# Altium schematic symbol library 智能锁实践教学平台.SchLib: 44 symbols
Pins are listed as number, name and electrical type; pins without a type are passive.

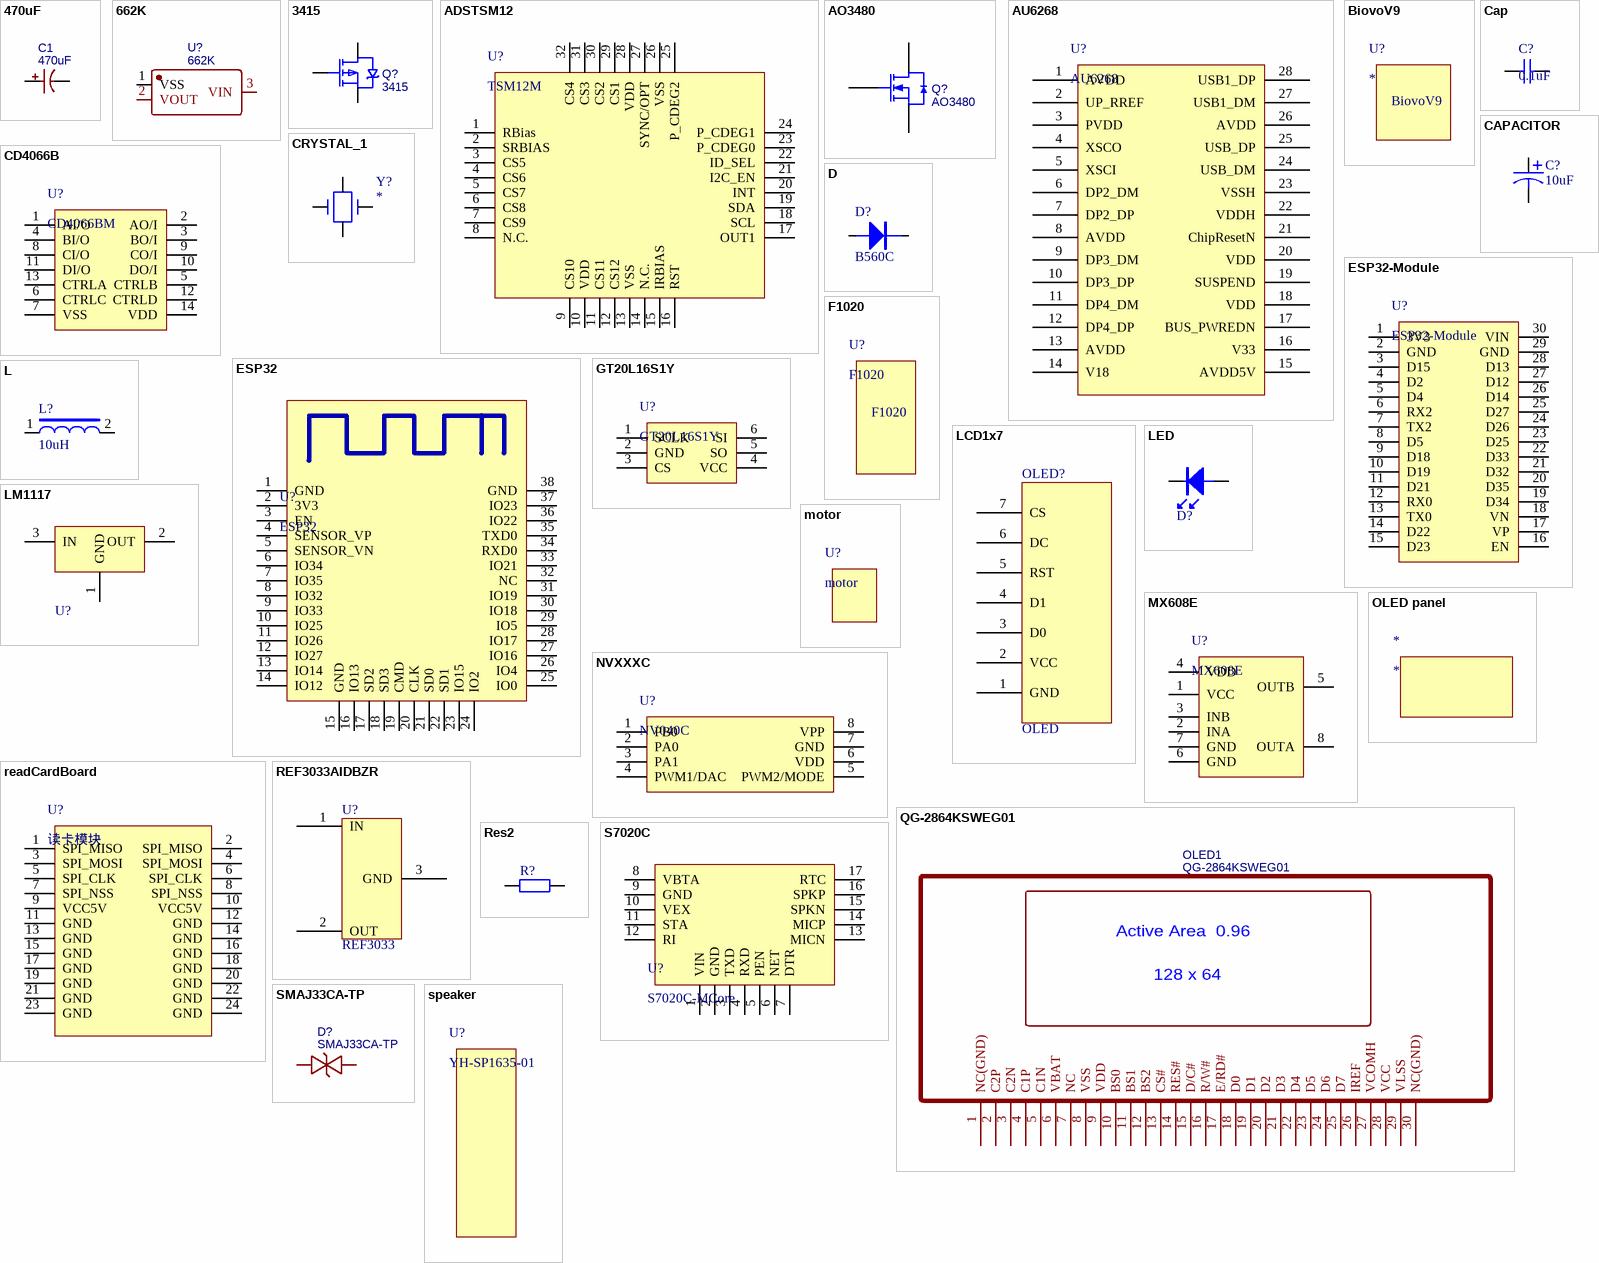
[diagram p0: symbols 470uF to speaker]

## 470uF
designator C1
BOM_Manufacturer: Lelon; BOM_Manufacturer Part: VZH471M1A1008-TRO; nameAlias: Capacitance; Contributor: LCSC; BOM_Supplier: LCSC; BOM_Supplier Part: C249929; BOM_JLCPCB Part Class: Extended Part; spicePre: C; spiceSymbolName: VZH471M1A1008-TRO
footprint CAP-SMD_BD10.0-L10.3-W10.3-FD
pins: 1, 2

## 662K
designator U?
footprint SOT-23(SOT-23-3)
pins: 1 VSS, 2 VOUT, 3 VIN

## 3415
designator Q?
BOM_Manufacturer: FM; SMT Type: Extend; BOM_Supplier: LCSC; BOM_Manufacturer Part: 3415; BOM_Supplier Part: C98122; BOM_LCSC Assembly: Yes; spicePre: Q; spiceSymbolName: 3415
footprint SOT-23(SOT-23-3)
pins: 1 G, 2 S, 3 D

## ADSTSM12
designator U?, comment TSM12M
触摸芯片，TSM12M，MLF-32封装
footprint MLF-32
pins: 1 RBias, 2 SRBIAS, 3 CS5, 4 CS6, 5 CS7, 6 CS8, 7 CS9, 8 N.C., 9 CS10, 10 VDD, 11 CS11, 12 CS12, 13 VSS, 14 N.C., 15 IRBIAS, 16 RST, 17 OUT1, 18 SCL, 19 SDA, 20 INT, 21 I2C_EN, 22 ID_SEL, 23 P_CDEG0, 24 P_CDEG1, 25 P_CDEG2, 26 VSS, 27 SYNC/OPT, 28 VDD, 29 CS1, 30 CS2, 31 CS3, 32 CS4

## AO3480
designator Q?
BOM_Manufacturer: Alpha & Omega Semicon; Contributor: LCSC; BOM_Supplier: LCSC; BOM_Supplier Part: C350817; BOM_Manufacturer Part: AO3480; spicePre: Q; spiceSymbolName: AO3480
footprint SOT-23(SOT-23-3)
pins: 1 G, 2 S, 3 D

## AU6268
designator U?
AU6268,SSOP28封装
footprint SSOP-28_208mil
pins: 1 AVDD, 2 UP_RREF, 3 PVDD, 4 XSCO, 5 XSCI, 6 DP2_DM, 7 DP2_DP, 8 AVDD, 9 DP3_DM, 10 DP3_DP, 11 DP4_DM, 12 DP4_DP, 13 AVDD, 14 V18, 15 AVDD5V, 16 V33, 17 BUS_PWREDN, 18 VDD, 19 SUSPEND, 20 VDD, 21 ChipResetN, 22 VDDH, 23 VSSH, 24 USB_DM, 25 USB_DP, 26 AVDD, 27 USB1_DM, 28 USB1_DP

## BiovoV9
designator U?
footprint BiovoV9

## Cap
designator C?, comment 0.1uF
贴片电容，0603
footprint 0603_C
pins: 1, 2

## CAPACITOR
designator C?, comment 10uF
贴片电容，SMD,6.3*5.7mm
footprint RB.2/.4
footprint CAP-T-6.3*5.7
footprint CASE-B_3528
pins: 1, 2
2 alternate drawings of the same symbol

## CD4066B
designator U?, comment CD4066BM
footprint SOIC-14_L8.7-W3.9-P1.27-LS6.0-BL
pins: 1 AI/O, 2 AO/I, 3 BO/I, 4 BI/O, 5 CTRLB, 6 CTRLC, 7 VSS, 8 CI/O, 9 CO/I, 10 DO/I, 11 DI/O, 12 CTRLD, 13 CTRLA, 14 VDD

## CRYSTAL_1
designator Y?
OSC,32.768KHz,+/-25ppm,3.3V,15pF,MC146,-20℃~70℃
footprint CRY_MC146
pins: 1, 2, 3, 4
2 alternate drawings of the same symbol

## D
designator D?, comment B560C
肖特基二极管，B560C，SMC(DO-214AB)_S1
footprint SMC(DO-214AB)_S1
footprint 1N4148
footprint 1N4742
footprint 1N5402
footprint SMA(DO-214AC)_S5
pins: 1, 2
2 alternate drawings of the same symbol

## ESP32
designator U?
footprint ESP32
pins: 1 GND, 2 3V3, 3 EN, 4 SENSOR_VP, 5 SENSOR_VN, 6 IO34, 7 IO35, 8 IO32, 9 IO33, 10 IO25, 11 IO26, 12 IO27, 13 IO14, 14 IO12, 15 GND, 16 IO13, 17 SD2, 18 SD3, 19 CMD, 20 CLK, 21 SD0, 22 SD1, 23 IO15, 24 IO2, 25 IO0, 26 IO4, 27 IO16, 28 IO17, 29 IO5, 30 IO18, 31 IO19, 32 NC, 33 IO21, 34 RXD0, 35 TXD0, 36 IO22, 37 IO23, 38 GND

## ESP32-Module
designator U?
ESP32开发板
footprint ESP32-MODULE
pins: 1 3V3, 2 GND, 3 D15, 4 D2, 5 D4, 6 RX2, 7 TX2, 8 D5, 9 D18, 10 D19, 11 D21, 12 RX0, 13 TX0, 14 D22, 15 D23, 16 EN, 17 VP, 18 VN, 19 D34, 20 D35, 21 D32, 22 D33, 23 D25, 24 D26, 25 D27, 26 D14, 27 D12, 28 D13, 29 GND, 30 VIN

## F1020
designator U?
footprint F1020

## GT20L16S1Y
designator U?
字库芯片， SOT-23-6
footprint SOT-23-6
pins: 1 SCLK, 2 GND, 3 CS, 4 VCC, 5 SO, 6 SI

## L
designator L?, comment 10uH
footprint XH2p
footprint L10
footprint L20
footprint L4.5
footprint 0603_L
pins: 1, 2
2 alternate drawings of the same symbol

## LCD1x7
designator OLED?, comment OLED
中景园0.96寸OLED
footprint OLED1X7 (Connector; Header; 7 Position)
footprint OLED1X7 (Connector; Header; 7 Position)
pins: 1 GND, 2 VCC, 3 D0, 4 D1, 5 RST, 6 DC, 7 CS

## LED
designator D?  (value not drawn)
贴片LED，0603，绿色
footprint LED_0603
footprint 0603_LED_S1
pins: A, K

## LM1117
designator U?  (value not drawn)
footprint SOT-223
pins: 1 GND, 2 OUT, 3 IN

## motor
designator U?
顶呱呱工厂 MH-JS030LK140
footprint MH-JS030LK140

## MX608E
designator U?
MX608E电机驱动，SOP8
footprint SOP-8_150mil
pins: 1 VCC, 2 INA, 3 INB, 4 VDD, 5 OUTB, 6 GND, 7 GND, 8 OUTA

## NVXXXC
designator U?, comment NV040C
语音芯片，SOP-8
footprint SOP-8_150mil
pins: 1 PB0, 2 PA0, 3 PA1, 4 PWM1/DAC, 5 PWM2/MODE, 6 VDD, 7 GND, 8 VPP

## OLED panel
designator *

## QG-2864KSWEG01
designator OLED1
BOM_Manufacturer: Allvision; BOM_Supplier: LCSC; BOM_Manufacturer Part: QG-2864KSWEG01; BOM_Supplier Part: C85007; spicePre: O; spiceSymbolName: QG-2864KSWEG01
footprint OLED-SMD_QG-2864KSWEG01
pins: 1 NC(GND), 2 C2P, 3 C2N, 4 C1P, 5 C1N, 6 VBAT, 7 NC, 8 VSS, 9 VDD, 10 BS0, 11 BS1, 12 BS2, 13 CS#, 14 RES#, 15 D/C#, 16 R/W#, 17 E/RD#, 18 D0, 19 D1, 20 D2, 21 D3, 22 D4, 23 D5, 24 D6, 25 D7, 26 IREF, 27 VCOMH, 28 VCC, 29 VLSS, 30 NC(GND)
text: Active Area  0.96; 128 x 64

## readCardBoard
designator U?, comment 读卡模块
footprint readCardBoard
pins: 1 SPI_MISO, 2 SPI_MISO, 3 SPI_MOSI, 4 SPI_MOSI, 5 SPI_CLK, 6 SPI_CLK, 7 SPI_NSS, 8 SPI_NSS, 9 VCC5V, 10 VCC5V, 11 GND, 12 GND, 13 GND, 14 GND, 15 GND, 16 GND, 17 GND, 18 GND, 19 GND, 20 GND, 21 GND, 22 GND, 23 GND, 24 GND

## REF3033AIDBZR
designator U?, comment REF3033
3.0V标准电压输出，SOT-23; autor: caibin
footprint SOT-23(SOT-23-3)
pins: 1 IN, 2 OUT, 3 GND

## Res2
designator R?  (value not drawn)
贴片电阻，0603
footprint 0603_R
pins: 1, 2

## S7020C
designator U?, comment S7020C-MCore
footprint S7020C-MCore
pins: 1 VIN, 2 GND, 3 TXD, 4 RXD, 5 PEN, 6 NET, 7 DTR, 8 VBTA, 9 GND, 10 VEX, 11 STA, 12 RI, 13 MICN, 14 MICP, 15 SPKN, 16 SPKP, 17 RTC

## SMAJ33CA-TP
designator D?
footprint SMA_L4.4-W2.6-LS5.0-BI
pins: 1, 2

## speaker
designator U?, comment YH-SP1635-01
1635腔体喇叭
footprint YH-SP1635-01

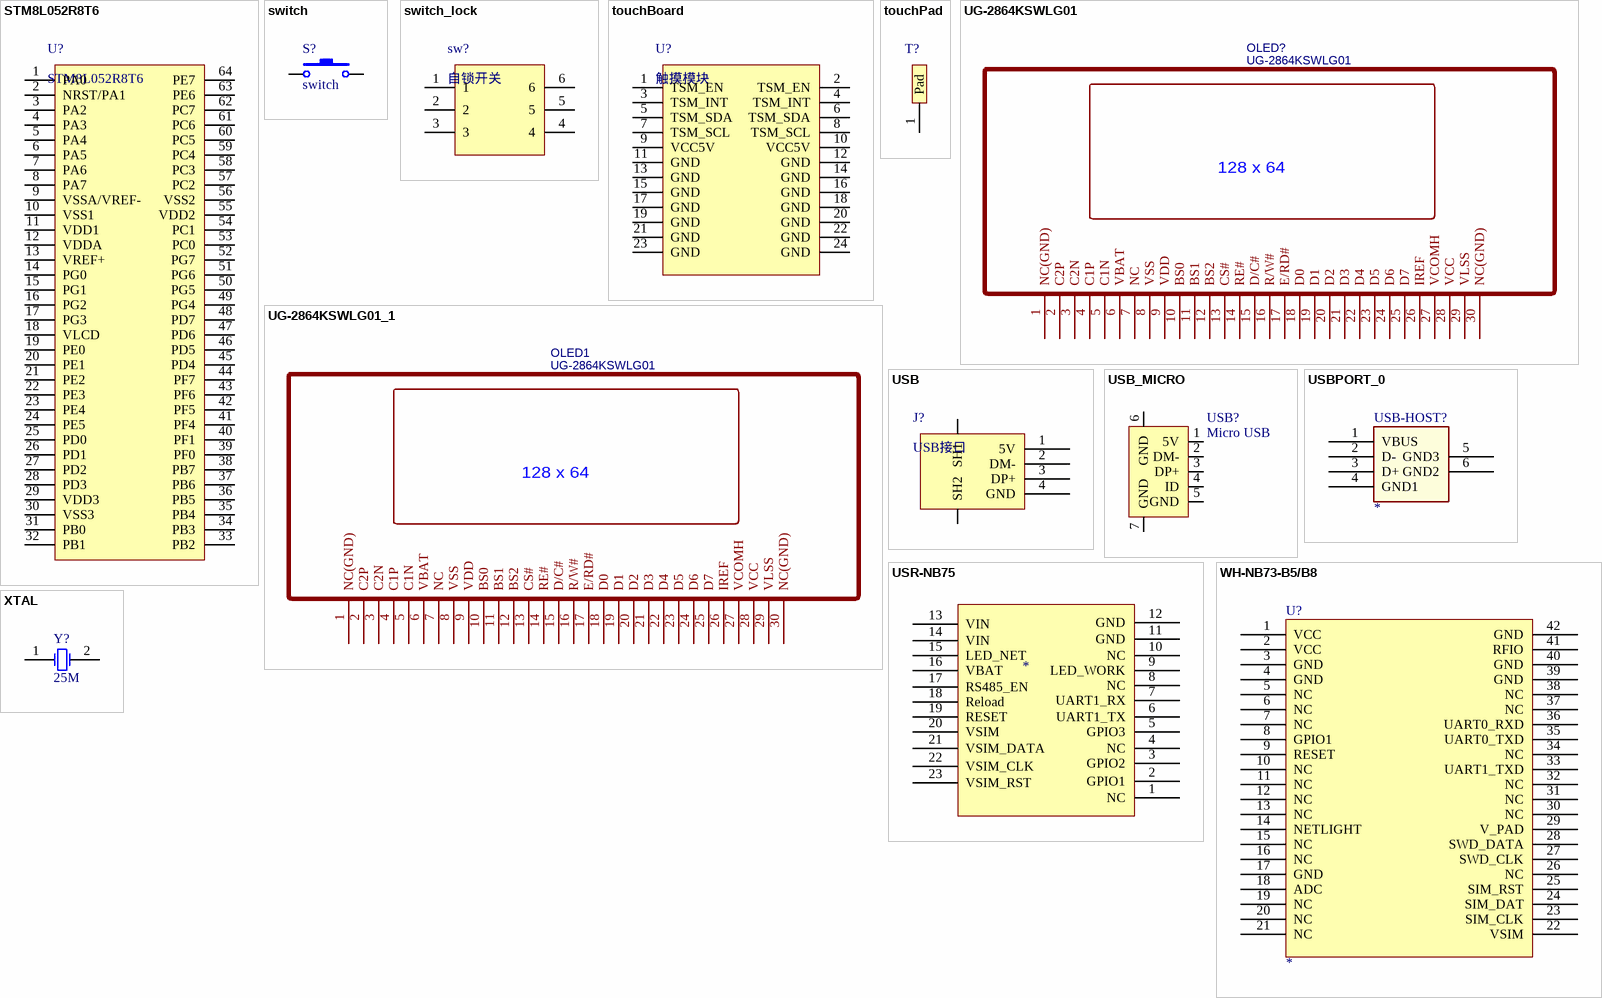
[diagram p1: symbols STM8L052R8T6 to XTAL]

## STM8L052R8T6
designator U?
pins: 1 PA0, 2 NRST/PA1, 3 PA2, 4 PA3, 5 PA4, 6 PA5, 7 PA6, 8 PA7, 9 VSSA/VREF-, 10 VSS1, 11 VDD1, 12 VDDA, 13 VREF+, 14 PG0, 15 PG1, 16 PG2, 17 PG3, 18 VLCD, 19 PE0, 20 PE1, 21 PE2, 22 PE3, 23 PE4, 24 PE5, 25 PD0, 26 PD1, 27 PD2, 28 PD3, 29 VDD3, 30 VSS3, 31 PB0, 32 PB1, 33 PB2, 34 PB3, 35 PB4, 36 PB5, 37 PB6, 38 PB7, 39 PF0, 40 PF1, 41 PF4, 42 PF5, 43 PF6, 44 PF7, 45 PD4, 46 PD5, 47 PD6, 48 PD7, 49 PG4, 50 PG5, 51 PG6, 52 PG7, 53 PC0, 54 PC1, 55 VDD2, 56 VSS2, 57 PC2, 58 PC3, 59 PC4, 60 PC5, 61 PC6, 62 PC7, 63 PE6, 64 PE7

## switch
designator S?
贴片按键，6*6*5
footprint KEY6*6
pins: 1, 2

## switch_lock
designator sw?, comment 自锁开关
footprint switch
pins: 1, 2, 3, 4, 5, 6

## touchBoard
designator U?, comment 触摸模块
footprint touchBoard
pins: 1 TSM_EN, 2 TSM_EN, 3 TSM_INT, 4 TSM_INT, 5 TSM_SDA, 6 TSM_SDA, 7 TSM_SCL, 8 TSM_SCL, 9 VCC5V, 10 VCC5V, 11 GND, 12 GND, 13 GND, 14 GND, 15 GND, 16 GND, 17 GND, 18 GND, 19 GND, 20 GND, 21 GND, 22 GND, 23 GND, 24 GND

## touchPad
designator T?  (value not drawn)
footprint touchPad
pins: 1 Pad

## UG-2864KSWLG01
designator OLED?
1.3寸oled
footprint OLED-1.3
pins: 1 NC(GND), 2 C2P, 3 C2N, 4 C1P, 5 C1N, 6 VBAT, 7 NC, 8 VSS, 9 VDD, 10 BS0, 11 BS1, 12 BS2, 13 CS#, 14 RE#, 15 D/C#, 16 R/W#, 17 E/RD#, 18 D0, 19 D1, 20 D2, 21 D3, 22 D4, 23 D5, 24 D6, 25 D7, 26 IREF, 27 VCOMH, 28 VCC, 29 VLSS, 30 NC(GND)
text: 128 x 64

## UG-2864KSWLG01_1
designator OLED1, comment UG-2864KSWLG01
BOM_Manufacturer: UG; BOM_Supplier: LCSC; BOM_Manufacturer Part: UG-2864KSWLG01; BOM_Supplier Part: C113322; BOM_JLCPCB Part Class: Extended Part; spicePre: O; spiceSymbolName: UG-2864KSWLG01
footprint OLED-1.3
pins: 1 NC(GND), 2 C2P, 3 C2N, 4 C1P, 5 C1N, 6 VBAT, 7 NC, 8 VSS, 9 VDD, 10 BS0, 11 BS1, 12 BS2, 13 CS#, 14 RE#, 15 D/C#, 16 R/W#, 17 E/RD#, 18 D0, 19 D1, 20 D2, 21 D3, 22 D4, 23 D5, 24 D6, 25 D7, 26 IREF, 27 VCOMH, 28 VCC, 29 VLSS, 30 NC(GND)
text: 128 x 64

## USB
designator J?, comment USB接口
footprint USB_D
pins: 1 5V, 2 DM-, 3 DP+, 4 GND, SH1, SH2

## USB_MICRO
designator USB?, comment Micro USB
footprint MICRO_USB
pins: 1 5V, 2 DM-, 3 DP+, 4 ID, 5 GND, 6 GND, 7 GND

## USBPORT_0
designator USB-HOST?
pins: 1 VBUS, 2 D-, 3 D+, 4 GND1, 5 GND3, 6 GND2

## USR-NB75
designator *
pins: 1 NC, 2 GPIO1, 3 GPIO2, 4 NC, 5 GPIO3, 6 UART1_TX, 7 UART1_RX, 8 NC, 9 LED_WORK, 10 NC, 11 GND, 12 GND, 13 VIN, 14 VIN, 15 LED_NET, 16 VBAT, 17 RS485_EN, 18 Reload, 19 RESET, 20 VSIM, 21 VSIM_DATA, 22 VSIM_CLK, 23 VSIM_RST

## WH-NB73-B5/B8
designator U?
pins: 1 VCC, 2 VCC, 3 GND, 4 GND, 5 NC, 6 NC, 7 NC, 8 GPIO1, 9 RESET, 10 NC, 11 NC, 12 NC, 13 NC, 14 NETLIGHT, 15 NC, 16 NC, 17 GND, 18 ADC, 19 NC, 20 NC, 21 NC, 22 VSIM, 23 SIM_CLK, 24 SIM_DAT, 25 SIM_RST, 26 NC, 27 SWD_CLK, 28 SWD_DATA, 29 V_PAD, 30 NC, 31 NC, 32 NC, 33 UART1_TXD, 34 NC, 35 UART0_TXD, 36 UART0_RXD, 37 NC, 38 NC, 39 GND, 40 GND, 41 RFIO, 42 GND
2 alternate drawings of the same symbol

## XTAL
designator Y?, comment 25M
贴片晶振，49SMD
footprint LC-HC-49SMD
pins: 1 OSC1, 2 OSC2